# EAGLE library part 74FST3257DR2G (library 74FST3257DR2G)
74FST3257DR2G, LOG QUAD 2:1 MULTIPLEXER ON Semiconductor 74FST3257DR2G, Multiplexer Switch IC Quad 2:1 Demultiplexer, 4 5.5 V, 16-Pin SOIC Source: Datasheet <https://componentsearchengine.com/Datasheets/2/74FST3257DR2G.pdf>
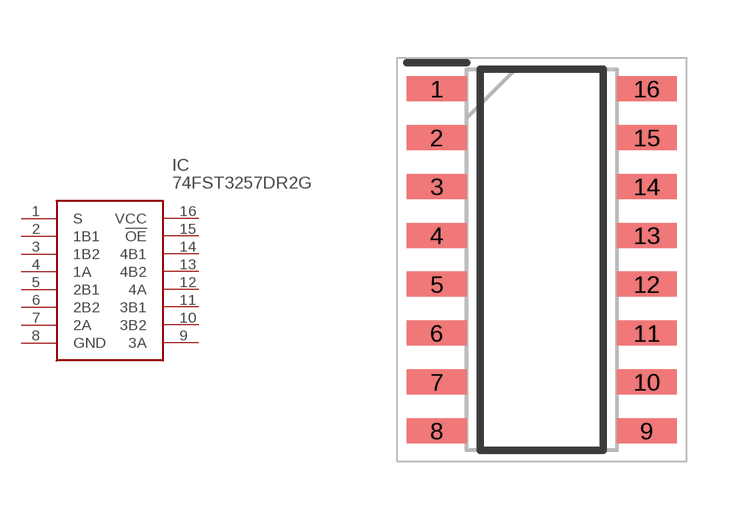
[diagram p0: symbol with the pads of SOIC127P600X175-16N; footprint SOIC127P600X175-16N]

Designator prefix IC

## 74FST3257DR2G (Description: 74FST3257DR2G, LOG QUAD 2:1 MULTIPLEXER ON Semiconductor 74FST3257DR2G, Multiplexer Switch IC Quad 2:1 Demultiplexer, 4 5.5 V, 16-Pin SOIC; Height: 1.75mm; Manufacturer_Name: ON Semiconductor; Manufacturer_Part_Number: 74FST3257DR2G; RS_Part_Number: 8009395; RS_Price/Stock: http://uk.rs-online.com/web/p/products/8009395)  [SOIC127P600X175-16N]
1  S  in
2  1B1  in
3  1B2  in
4  1A  in
5  2B1  in
6  2B2  in
7  2A  in
8  GND  in
9  3A  in
10  3B2  in
11  3B1  in
12  4A  in
13  4B2  in
14  4B1  in
15  !OE  in
16  VCC  in

## Footprint SOIC127P600X175-16N (pad centres in mm)
SOIC-16 CASE751B-05
smd 1.55 x 0.65: 1 -2.725,4.445; 2 -2.725,3.175; 3 -2.725,1.905; 4 -2.725,0.635; 5 -2.725,-0.635; 6 -2.725,-1.905; 7 -2.725,-3.175; 8 -2.725,-4.445; 9 2.725,-4.445; 10 2.725,-3.175; 11 2.725,-1.905; 12 2.725,-0.635; 13 2.725,0.635; 14 2.725,1.905; 15 2.725,3.175; 16 2.725,4.445